# Altium footprint library Sensor_Interface.PcbLib: 2 footprints
Each footprint in its own frame and in the unit in brackets; x right, y up, seen from the top. Pads: shape width x height; smd on the part's side, far side on the other; paste and mask are expansions set on the pad; w line width, h text height; cw(c..) or ccw(c..) is an arc to the next point about the centre after c.
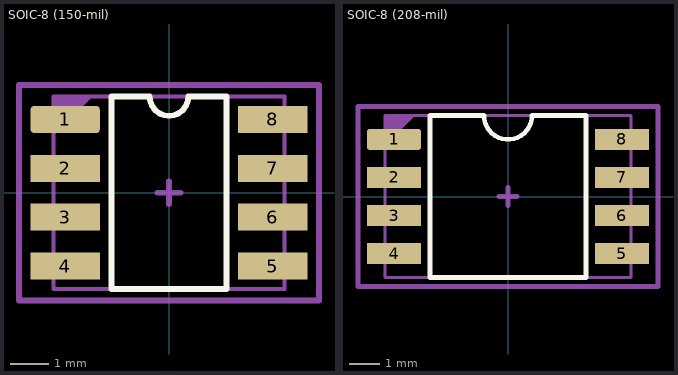
[diagram p0: the footprints below, top view; thin cyan lines are the x and y axes]

## SOIC-8 (150-mil) [mm]
pads (8):
  rrect25% 1.8x0.7 smd: 1(-2.7,1.905)
  rect 1.8x0.7 smd: 2(-2.7,0.635) 3(-2.7,-0.635) 4(-2.7,-1.905) 5(2.7,-1.905) 6(2.7,-0.635) 7(2.7,0.635) 8(2.7,1.905)
Top Overlay:
  lines w0.153: -1.5,-2.5 1.5,-2.5 1.5,2.5 0.5,2.5 cw(c0,2.5) -0.5,2.5 -1.5,2.5 -1.5,-2.5
Top Assembly:
  region: -3,2.5 -3,1.5 -2,2.5
  lines w0.1: -3,-2.5 -3,2.5 3,2.5 3,-2.5 -3,-2.5
  text "'.Designator'" at -4.532,-0.333 h0.8
Top Courtyard:
  lines w0.153: -0.3,0 0.3,0 ; 0,-0.3 0,0.3 ; -3.9,-2.8 3.9,-2.8 3.9,2.8 -3.9,2.8 -3.9,-2.8
3D body "so8-3.step": height 1.7, standoff 0, extent -3,-2.45 3,2.45

## SOIC-8 (208-mil) [mm]
pads (8):
  rrect25% 1.8x0.7 smd: 1(-3.8,1.905)
  rect 1.8x0.7 smd: 2(-3.8,0.635) 3(-3.8,-0.635) 4(-3.8,-1.905) 5(3.8,-1.905) 6(3.8,-0.635) 7(3.8,0.635) 8(3.8,1.905)
Top Overlay:
  lines w0.153: -2.6,-2.7 2.6,-2.7 2.6,2.7 0.8,2.7 cw(c0,2.7) -0.8,2.7 -2.6,2.7 -2.6,-2.7
Top Assembly:
  region: -4.1,2.7 -4.1,1.7 -3.1,2.7
  lines w0.1: -4.1,-2.7 4.1,-2.7 4.1,2.7 -4.1,2.7 -4.1,-2.7
  text "'.Designator'" at -4.532,-0.333 h0.8
Top Courtyard:
  lines w0.153: -0.3,0 0.3,0 ; 0,-0.3 0,0.3 ; -5,-3 -5,3 5,3 5,-3 -5,-3
3D body "User Library-SOIC-8-208.STEP": height 2.15, standoff 0, extent -4.1,-2.7 4.1,2.7